# EAGLE library part ESP8266-12E (library circuit_tree)
IC
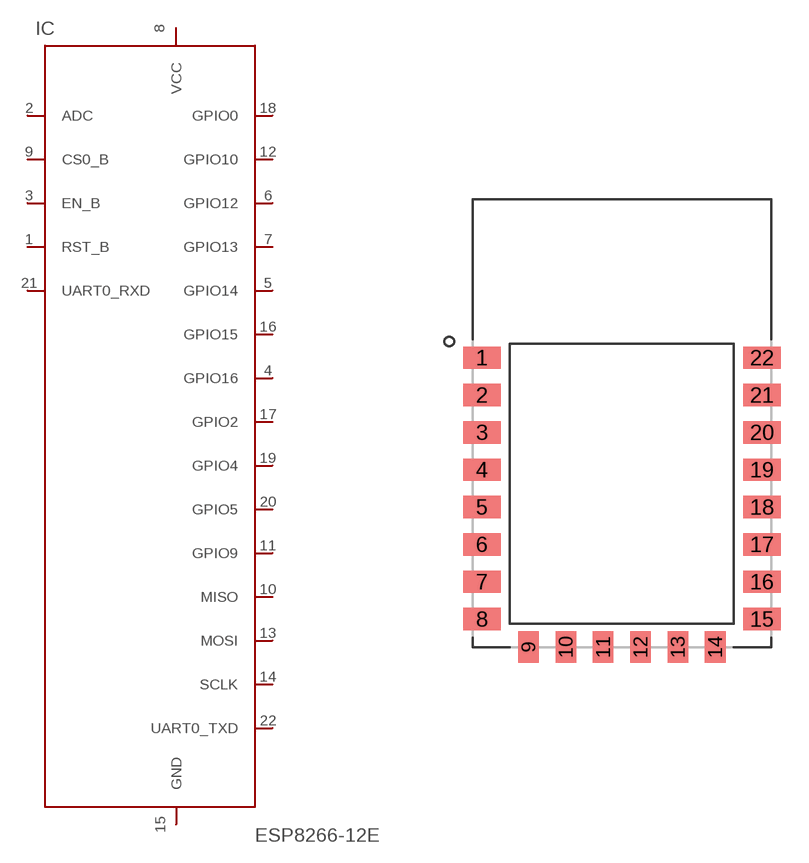
[diagram p3: symbol with the pads of ESP8266-12E; footprint ESP8266-12E]

Designator prefix IC

## ESP8266-12E  [ESP8266-12E]
1  RST_B  pas
2  ADC  pas
3  EN_B  pas
4  GPIO16  pas
5  GPIO14  pas
6  GPIO12  pas
7  GPIO13  pas
8  VCC  pas
9  CS0_B  pas
10  MISO  pas
11  GPIO9  pas
12  GPIO10  pas
13  MOSI  pas
14  SCLK  pas
15  GND  pas
16  GPIO15  pas
17  GPIO2  pas
18  GPIO0  pas
19  GPIO4  pas
20  GPIO5  pas
21  UART0_RXD  pas
22  UART0_TXD  pas

## Footprint ESP8266-12E (pad centres in mm)
smd 2 x 1.2: 1 -7.5,7; 2 -7.5,5; 3 -7.5,3; 4 -7.5,1; 5 -7.5,-1; 6 -7.5,-3; 7 -7.5,-5; 8 -7.5,-7; 15 7.5,-7; 16 7.5,-5; 17 7.5,-3; 18 7.5,-1; 19 7.5,1; 20 7.5,3; 21 7.5,5; 22 7.5,7
smd 1.1 x 1.7: 9 -5,-8.5; 10 -3,-8.5; 11 -1,-8.5; 12 1,-8.5; 13 3,-8.5; 14 5,-8.5